# EAGLE library part DP3T (library pi-frontpanel)
Use, eg, digikey 450-1536-ND
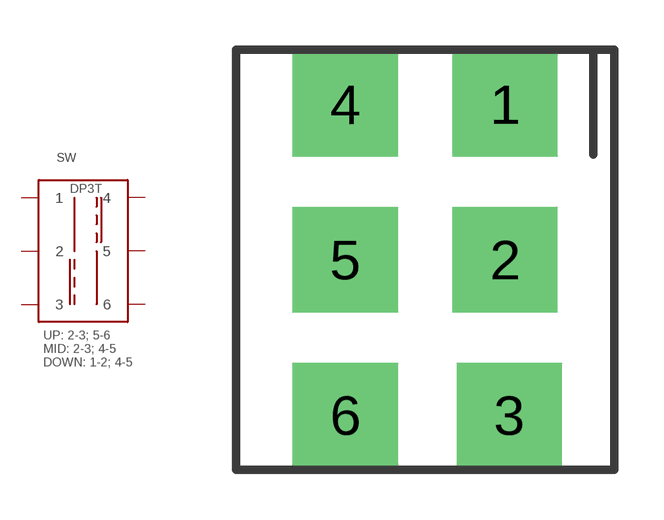
[diagram p1: symbol with the pads of SP3T_LUG; footprint SP3T_LUG]

Designator prefix SW

## DP3T (PARTNUM: 450-1536-ND)  [SP3T_LUG]
1  1
2  2
3  3
4  4
5  5
6  6

## Footprint SP3T_LUG (pad centres in mm)
Wire lug SP3T switch, eg, 450-1536-ND
drill 2.159 square: 1 2.413,4.699; 2 2.413,0; 3 2.54,-4.699; 4 -2.413,4.699; 5 -2.413,0; 6 -2.413,-4.699